# Altium footprint library Solder Pads.PcbLib: 2 footprints
Each footprint in its own frame and in the unit in brackets; x right, y up, seen from the top. Pads: shape width x height; smd on the part's side, far side on the other; paste and mask are expansions set on the pad; w line width, h text height; cw(c..) or ccw(c..) is an arc to the next point about the centre after c.
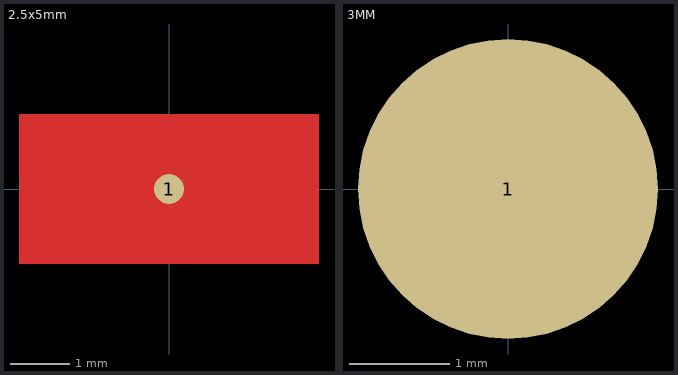
[diagram p0: the footprints below, top view; thin cyan lines are the x and y axes]

## 2.5x5mm [mil]
pads (1):
  round 20 smd mask+0: 1(0,0)
Top Layer:
  rectangle: -100,-50 100,50

## 3MM [mm] "3MM Diam Pad"
pads (1):
  round 3 smd mask+0.254: 1(0,0)